# Altium schematic symbol library SOT-553 linear reg.SchLib: 1 symbol
Pins are listed as number, name and electrical type; pins without a type are passive.

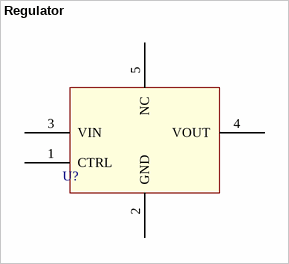
[diagram p0: symbol Regulator]

## Regulator
designator U?  (value not drawn)
3.3V Regulator; Manufacturer Part No.: TCR2EE33,LM(CT; Imax: 200mA; Digi-Key Part No.: TCR2EE33LM(CTCT-ND; Vout: 3.3V
footprint SOT-553
pins: 1 CTRL, 2 GND, 3 VIN, 4 VOUT, 5 NC